# Altium footprint library Pololu 5V_5A Reg.PcbLib: 1 footprints
Each footprint in its own frame and in the unit in brackets; x right, y up, seen from the top. Pads: shape width x height; smd on the part's side, far side on the other; paste and mask are expansions set on the pad; w line width, h text height; cw(c..) or ccw(c..) is an arc to the next point about the centre after c.
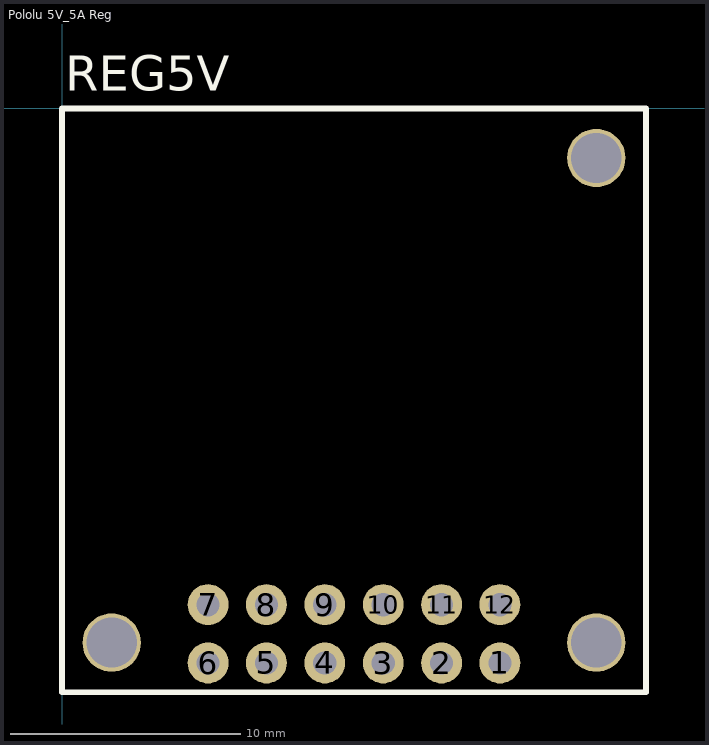
[diagram p0: the footprint, top view; thin cyan lines are the x and y axes]

## Pololu 5V_5A Reg [mil]
pads (15):
  round 70 hole 40: 1(750,-950) 2(650,-950) 3(550,-950) 4(450,-950) 5(350,-950) 6(250,-950) 7(250,-850) 8(350,-850) 9(450,-850) 10(550,-850) 11(650,-850) 12(750,-850)
  round 100 hole 86: ""(85,-915) ""(915,-915) ""(915,-85)
Top Overlay:
  lines w10: 0,-1000 1000,-1000 1000,0 0,0 0,-1000
  text "REG5V" at 5,30 h60
3D body "d42v55fx-step-down-voltage-regulator.step": height 373.02, standoff -53.15, extent 5,-1005 1005,-5